# Altium integrated library devkits.IntLib: 3 symbols
Pins are listed as number, name and electrical type; pins without a type are passive.

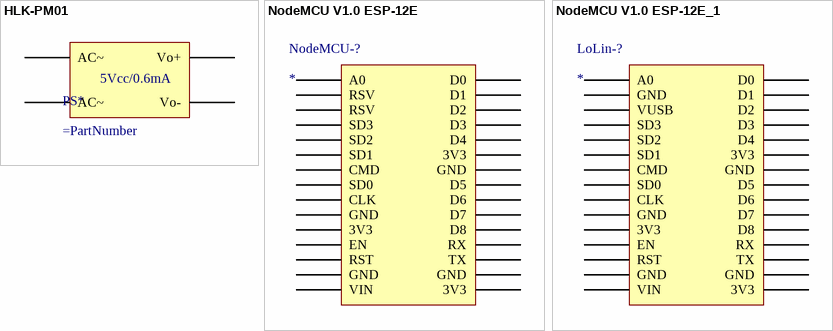
[diagram p0: symbols HLK-PM01 to NodeMCU V1.0 ESP-12E_1]

## HLK-PM01
designator PS*
footprint HLK-PM01
pins: 1 AC~, 2 AC~, 3 Vo+, 4 Vo-
text: 5Vcc/0.6mA

## NodeMCU V1.0 ESP-12E
designator NodeMCU-?
NodeMCU V1.0 ESP8266 (ESP-12E)
footprint NodeMCU V1.0 ESP-12E
footprint NodeMCU (+ LoLin)
pins: 3V3, 3V3, 3V3, A0, CLK, CMD, D0, D1, D2, D3, D4, D5, D6, D7, D8, EN, GND, GND, GND, GND, RST, RSV, RSV, RX, SD0, SD1, SD2, SD3, TX, VIN

## NodeMCU V1.0 ESP-12E_1
designator LoLin-?
LoLin NodeMCU V3
footprint LoLin NodeMcu V3
footprint LoLin (+ NodeMCU)
pins: 3V3, 3V3, 3V3, A0, CLK, CMD, D0, D1, D2, D3, D4, D5, D6, D7, D8, EN, GND, GND, GND, GND, GND, RST, RX, SD0, SD1, SD2, SD3, TX, VIN, VUSB